# Altium footprint library INF-PG-SCT595V.PcbLib: 1 footprints
Each footprint in its own frame and in the unit in brackets; x right, y up, seen from the top. Pads: shape width x height; smd on the part's side, far side on the other; paste and mask are expansions set on the pad; w line width, h text height; cw(c..) or ccw(c..) is an arc to the next point about the centre after c.
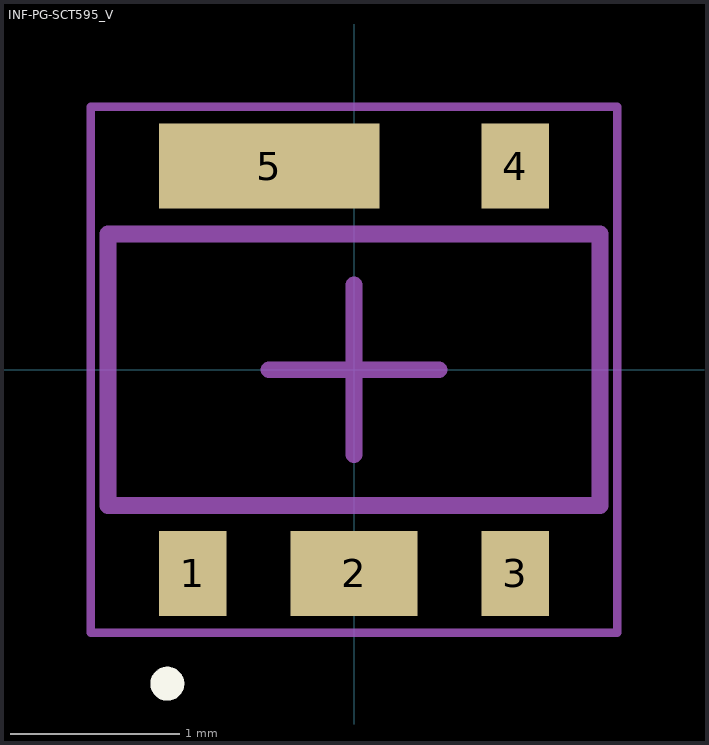
[diagram p0: the footprint, top view; thin cyan lines are the x and y axes]

## INF-PG-SCT595_V [mm] "SOT23, 5-Leads, Body 2.9x1.6mm, Pitch 0.95mm"
height 1.1
pads (5):
  rect 0.4x0.5 smd: 1(-0.95,-1.2) 3(0.95,-1.2) 4(0.95,1.2)
  rect 0.75x0.5 smd: 2(0,-1.2)
  rect 1.3x0.5 smd: 5(-0.5,1.2)
Top Overlay:
  circle w0.1: c-1.1,-1.85 r0.05
Mechanical 13:
  lines w0.1: -1.45,-0.8 1.45,-0.8 1.45,0.8 -1.45,0.8 -1.45,-0.8
Mechanical 15:
  lines w0.05: -1.55,-1.55 1.55,-1.55 1.55,1.55 -1.55,1.55 -1.55,-1.55
  lines w0.1: -0.5,0 0.5,0 ; 0,-0.5 0,0.5
3D body: height 1.1, standoff 0.1, extent -1.45,-0.8 1.45,0.8